# Altium footprint library User.PcbLib: 1 footprints
Each footprint in its own frame and in the unit in brackets; x right, y up, seen from the top. Pads: shape width x height; smd on the part's side, far side on the other; paste and mask are expansions set on the pad; w line width, h text height; cw(c..) or ccw(c..) is an arc to the next point about the centre after c.
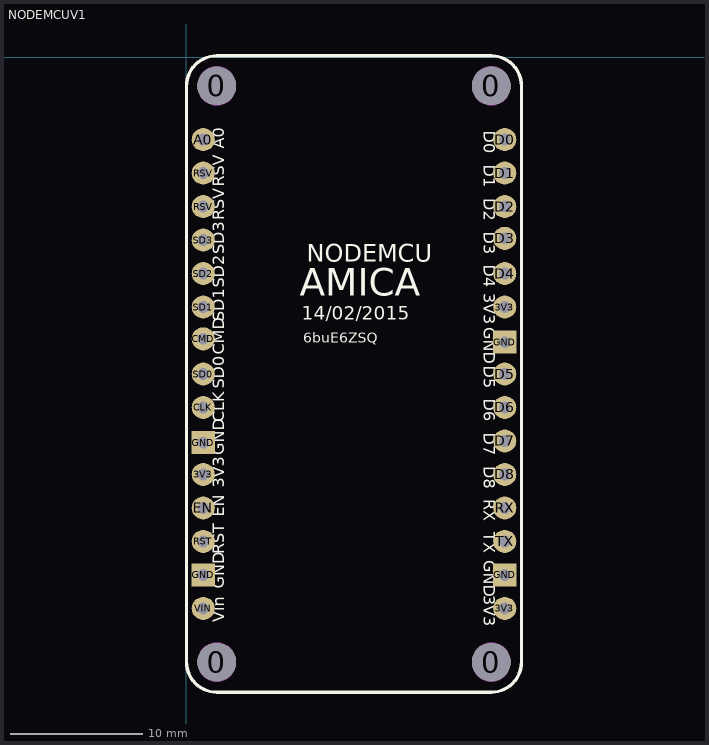
[diagram p0: the footprint, top view; thin cyan lines are the x and y axes]

## NODEMCUV1 [mil]
pads (34):
  round 115 hole 115 unplated paste-300 mask-300: 0(91,-1806) 0(91,-86) 0(911,-1806) 0(911,-86)
  round 69 hole 35: 3V3(51,-1246) 3V3(951,-1646) 3V3(951,-746) A0(51,-246) CLK(51,-1046) CMD(51,-841) D0(951,-246) D1(951,-346) D2(951,-446) D3(951,-541) D4(951,-646) D5(951,-946) D6(951,-1046) D7(951,-1146) D8(951,-1246) EN(51,-1346) RST(51,-1446) RSV(51,-446) RSV(51,-346) RX(951,-1346) SD0(51,-946) SD1(51,-746) SD2(51,-646) SD3(51,-546) TX(951,-1446) VIN(51,-1646)
  rect 69x69 hole 35: GND(51,-1546) GND(51,-1151) GND(951,-1546) GND(951,-851)
Top Overlay:
  lines w10: 1,-1806 ccw(c91,-1806) 91,-1896 911,-1896 ccw(c911,-1806) 1001,-1806 1001,-86 ccw(c911,-86) 911,4 91,4 ccw(c91,-86) 1,-86 1,-1806
  text "14/02/2015" at 345,-798 h69
  text "AMICA" at 339,-739 h140
  text "NODEMCU" at 360,-629 h90
  text "6buE6ZSQ" at 349,-853 h30
  text "CLK" at 126,-1090 h60
  text "SD0" at 126,-989.57 h60
  text "SD1" at 126,-788.71 h60
  text "SD2" at 126,-688.29 h60
  text "SD3" at 126,-587.86 h60
  text "RSV" at 126,-487.43 h60
  text "RSV" at 126,-387 h60
  text "A0" at 126,-273 h60
  text "D5" at 876,-921 h60
  text "GND" at 876,-807 h60
  text "3V3" at 876,-705.01 h60
  text "D4" at 876,-620 h60
  text "D3" at 876,-521.58 h60
  text "D2" at 876,-421.58 h60
  text "D1" at 876,-321.35 h60
  text "D0" at 876,-220 h60
  text "CMD" at 126,-889.14 h60
  text "D6" at 876,-1020.12 h60
  text "3V3" at 876,-1606 h60
  text "GND" at 876,-1502.2 h60
  text "TX" at 876,-1419 h60
  text "RX" at 876,-1320.06 h60
  text "D8" at 876,-1221.11 h60
  text "D7" at 876,-1121.23 h60
  text "Vin" at 126,-1687 h60
  text "GND" at 126,-1587 h60
  text "RST" at 126,-1484 h60
  text "EN" at 126,-1372 h60
  text "3V3" at 126,-1285 h60
  text "GND" at 126,-1188 h60
Keep-Out Layer:
  circle w2: c911,-1806 r57.5
  circle w2: c91,-1806 r57.5
  circle w2: c911,-86 r57.5
  circle w2: c91,-86 r57.5
3D body "ESP8266 v7.stp": height 305.63, standoff -249.1, extent 7.05,-1915 1012.95,7.05